# Altium schematic symbol library SSM2305.SchLib: 1 symbol
Pins are listed as number, name and electrical type; pins without a type are passive.

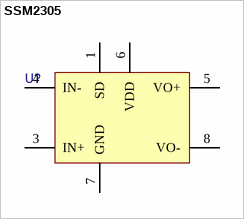
[diagram p0: symbol SSM2305]

## SSM2305
designator U?  (value not drawn)
pins: 1 SD, 3 IN+, 4 IN-, 5 VO+, 6 VDD, 7 GND, 8 VO-